# Altium footprint library SCHOTTKY 20V 1A SOD123F.PcbLib: 1 footprints
Each footprint in its own frame and in the unit in brackets; x right, y up, seen from the top. Pads: shape width x height; smd on the part's side, far side on the other; paste and mask are expansions set on the pad; w line width, h text height; cw(c..) or ccw(c..) is an arc to the next point about the centre after c.
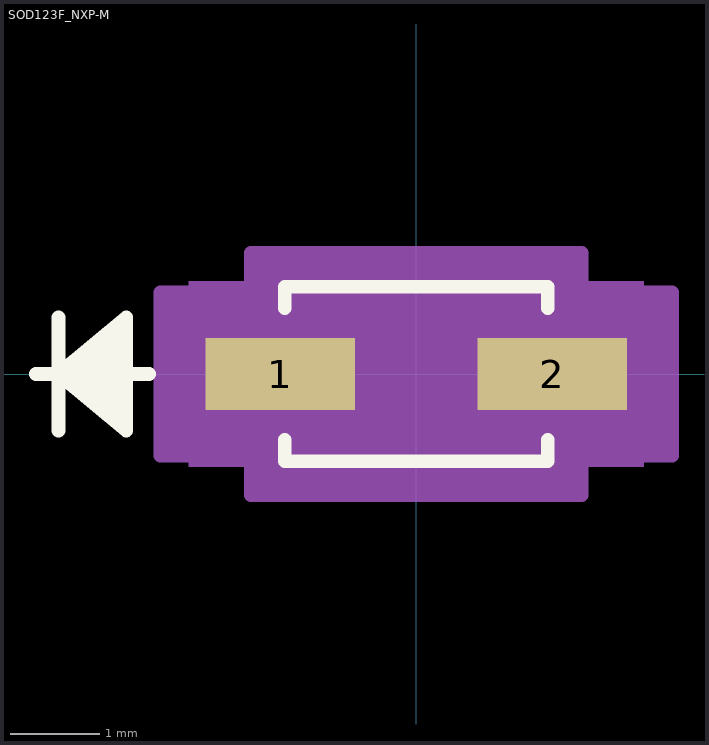
[diagram p0: the footprint, top view; thin cyan lines are the x and y axes]

## SOD123F_NXP-M [mil]
pads (2):
  rect 66x32 smd paste+0 mask+0: 1(-60,0) 2(60,0)
Top Overlay:
  lines w6: -168,0 -118,0 ; -158,-25 -158,25 ; -128,-20 -158,0 ; -128,-15 -158,0 ; -128,-10 -158,0 ; -128,-5 -158,0 ; -128,5 -158,0 ; -128,10 -158,0 ; -128,15 -158,0 ; -128,20 -158,0 ; -58,-29.1 -58,-38.5 58,-38.5 58,-29.1 ; -58,29.1 -58,38.5 58,38.5 58,29.1 ; -158,0 -128,-25 -128,25 -158,0
Mechanical 5:
  region: 100.5,-41 -100.5,-41 -100.5,41 100.5,41
Mechanical 13:
  lines w1: -168,0 -118,0 ; -158,-25 -158,25 ; -128,-20 -158,0 ; -128,-15 -158,0 ; -128,-10 -158,0 ; -128,-5 -158,0 ; -128,5 -158,0 ; -128,10 -158,0 ; -128,15 -158,0 ; -128,20 -158,0 ; -53,-16.75 -36.25,-33.5 ; -53,16.75 -36.25,33.5 ; 71,-14 53,-14 53,14 71,14 ; -158,0 -128,-25 -128,25 -158,0 ; -71,-14 -53,-14 -53,14 -71,14 -71,-14 ; -53,-33.5 -53,33.5 53,33.5 53,-33.5 -53,-33.5
Mechanical 15:
  region: -73,-36 -113,-36 -113,36 -73,36 -73,53.5 73,53.5 73,36 113,36 113,-36 73,-36 73,-53.5 -73,-53.5
  lines w6: -113,-36 -73,-36 -73,-53.5 73,-53.5 73,-36 113,-36 113,36 73,36 73,53.5 -73,53.5 -73,36 -113,36 -113,-36
3D body "SOD123F_NXP.step": height 47.09, standoff 0, extent -70.98,-33.5 70.99,33.51
3D body: height 10, standoff 0, extent 0,0 10,10